# Altium footprint library Connectors.PcbLib: 73 footprints (part 4 of 5)
Each footprint in its own frame and in the unit in brackets; x right, y up, seen from the top. Pads: shape width x height; smd on the part's side, far side on the other; paste and mask are expansions set on the pad; w line width, h text height; cw(c..) or ccw(c..) is an arc to the next point about the centre after c.
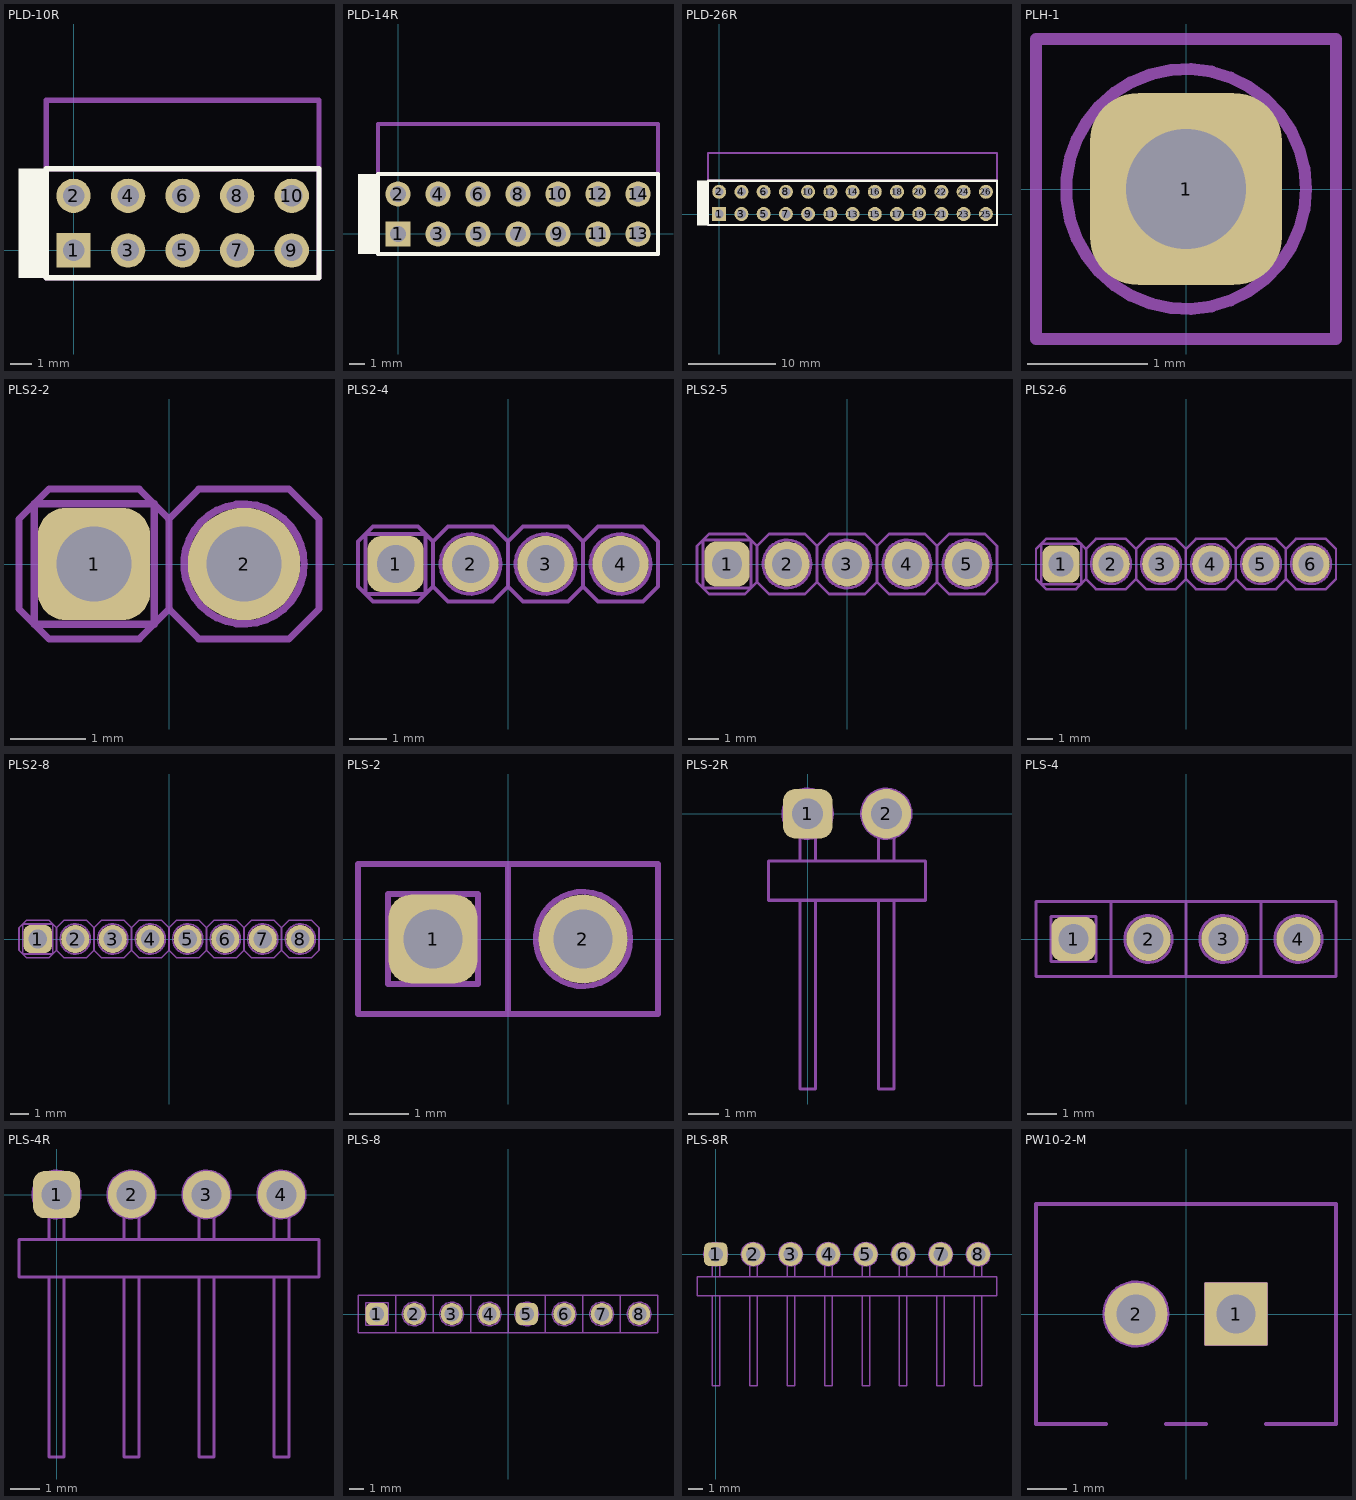
[diagram p3: the footprints below, top view; thin cyan lines are the x and y axes]

## PLD-10R [mm]
height 7
pads (10):
  rect 1.6x1.6 hole 1: 1(0,0)
  round 1.6 hole 1: 2(0,2.54) 3(2.54,0) 4(2.54,2.54) 5(5.08,0) 6(5.08,2.54) 7(7.62,0) 8(7.62,2.54) 9(10.16,0) 10(10.16,2.54)
Top Overlay:
  region: -1.27,3.81 -2.54,3.81 -2.54,-1.27 -1.27,-1.27
  lines w0.254: -1.27,-1.27 11.43,-1.27 11.43,3.81 -1.27,3.81 -1.27,-1.27
Mechanical 1:
  circle w0.254: c0,0 r0.635
  lines w0.254: -1.27,3.81 -1.27,-1.27 11.43,-1.27 11.43,3.81 ; -1.27,3.81 11.43,3.81 ; -1.27,3.81 -1.27,6.985 11.43,6.985 11.43,3.81
3D body: height 2.54, standoff 0, extent -1.27,-1.27 11.43,3.81
3D body: height 8.1, standoff 2.54, extent -1.27,-1.27 11.43,6.985

## PLD-14R [mm]
height 7
pads (14):
  rect 1.6x1.6 hole 1: 1(0,0)
  round 1.6 hole 1: 2(0,2.54) 3(2.54,0) 4(2.54,2.54) 5(5.08,0) 6(5.08,2.54) 7(7.62,0) 8(7.62,2.54) 9(10.16,0) 10(10.16,2.54) 11(12.7,0) 12(12.7,2.54) 13(15.24,0) 14(15.24,2.54)
Top Overlay:
  region: -1.27,3.81 -2.54,3.81 -2.54,-1.27 -1.27,-1.27
  lines w0.254: -1.27,-1.27 -1.27,3.81 16.51,3.81 16.51,-1.27 -1.27,-1.27
Mechanical 1:
  circle w0.254: c0,0 r0.635
  lines w0.254: 16.51,3.81 -1.27,3.81 ; -1.27,3.81 -1.27,6.985 16.51,6.985 16.51,-1.27 -1.27,-1.27 -1.27,3.81
3D body: height 8.1, standoff 2.54, extent -1.27,-1.27 16.51,6.985
3D body: height 2.54, standoff 0, extent -1.27,-1.27 16.51,3.81

## PLD-26R [mm]
height 7
pads (26):
  rect 1.6x1.6 hole 1: 1(0,0)
  round 1.6 hole 1: 2(0,2.54) 3(2.54,0) 4(2.54,2.54) 5(5.08,0) 6(5.08,2.54) 7(7.62,0) 8(7.62,2.54) 9(10.16,0) 10(10.16,2.54) 11(12.7,0) 12(12.7,2.54) 13(15.24,0) 14(15.24,2.54) 15(17.78,0) 16(17.78,2.54) 17(20.32,0) 18(20.32,2.54) 19(22.86,0) 20(22.86,2.54) 21(25.4,0) 22(25.4,2.54) 23(27.94,0) 24(27.94,2.54) 25(30.48,0) 26(30.48,2.54)
Top Overlay:
  region: -1.27,3.81 -2.54,3.81 -2.54,-1.27 -1.27,-1.27
  lines w0.254: -1.27,-1.27 31.75,-1.27 31.75,3.81 -1.27,3.81 -1.27,-1.27
Mechanical 1:
  circle w0.254: c0,0 r0.635
  lines w0.254: -1.27,3.81 31.75,3.81 ; -1.27,3.81 -1.27,-1.27 31.75,-1.27 31.75,3.81 ; -1.27,3.81 -1.27,6.985 31.75,6.985 31.75,3.81
3D body: height 2.54, standoff 0, extent -1.27,-1.27 31.75,3.81
3D body: height 8.1, standoff 2.54, extent -1.27,-1.27 31.75,6.985

## PLH-1 [mm]
pads (1):
  rrect50% 1.6x1.6 hole 1: 1(0,0)
Mechanical 1:
  lines w0.1: -1.25,-1.25 -1.25,1.25 1.25,1.25 1.25,-1.25 -1.25,-1.25
Mechanical 4:
  circle w0.1: c0,0 r1
Mechanical 13:
  text ".Designator" at -1.25,-2.25 h1
3D body: height 10.5, standoff 8, extent -1.25,-1.25 1.25,1.25
3D body: height 17, standoff -3, extent -0.5,-0.5 0.496,0.498
3D body: height 2.5, standoff 0, extent -1.25,-1.25 1.25,1.25

## PLS2-2 [mm]
pads (2):
  rrect50% 1.5x1.5 hole 1: 1(-1,0)
  round 1.5 hole 1: 2(1,0)
Mechanical 1:
  lines w0.1: 0,-0.6 0,0.6 ; 0,-0.6 0,-0.6 ; 0,-0.6 0.4,-1 1.6,-1 2,-0.6 2,0.6 1.6,1 0.4,1 0,0.6 ; 0,-0.6 -0.4,-1 -1.6,-1 -2,-0.6 -2,0.6 -1.6,1 -0.4,1 0,0.6 ; 0,0.6 0,0.6
Mechanical 4:
  circle w0.1: c1,0 r0.8
  lines w0.1: -1.8,-0.8 -0.2,-0.8 -0.2,0.8 -1.8,0.8 -1.8,-0.8
Mechanical 13:
  text ".Designator" at -2.286,-2.286 h1
3D body: height 1.5, standoff 0, extent 0,-1 2,1
3D body: height 1.5, standoff 0, extent -2,-1 0,1
3D body: height 5.5, standoff -2.5, extent 0.702,-0.299 1.3,0.299
3D body: height 5.5, standoff -2.5, extent -1.3,-0.299 -0.702,0.299

## PLS2-4 [mm]
pads (4):
  rrect50% 1.5x1.5 hole 1: 1(-3,0)
  round 1.5 hole 1: 2(-1,0) 3(1,0) 4(3,0)
Mechanical 1:
  lines w0.1: -2,-0.6 -2,0.6 ; -2,-0.6 -2,-0.6 ; -2,-0.6 -1.6,-1 -0.4,-1 0,-0.6 ; -2,-0.6 -2.4,-1 -3.6,-1 -4,-0.6 -4,0.6 -3.6,1 -2.4,1 -2,0.6 ; -2,0.6 -2,0.6 ; -2,0.6 -1.6,1 -0.4,1 0,0.6 ; 0,-0.6 0,-0.6 ; 0,-0.6 0.4,-1 1.6,-1 2,-0.6 ; 0,-0.6 0,0.6 ; 0,0.6 0.4,1 1.6,1 2,0.6 ; 0,0.6 0,0.6 ; 2,-0.6 2.4,-1 3.6,-1 4,-0.6 4,0.6 3.6,1 2.4,1 2,0.6 ; 2,-0.6 2,-0.6 ; 2,-0.6 2,0.6
Mechanical 4:
  circle w0.1: c-1,0 r0.8
  circle w0.1: c1,0 r0.8
  circle w0.1: c3,0 r0.8
  lines w0.1: -3.8,-0.8 -2.2,-0.8 -2.2,0.8 -3.8,0.8 -3.8,-0.8
Mechanical 13:
  text ".Designator" at -4.286,-2.286 h1
3D body: height 5.5, standoff -2.5, extent 2.702,-0.299 3.3,0.299
3D body: height 1.5, standoff 0, extent 2,-1 4,1
3D body: height 5.5, standoff -2.5, extent 0.702,-0.299 1.3,0.299
3D body: height 1.5, standoff 0, extent 0,-1 2,1
3D body: height 1.5, standoff 0, extent -2,-1 0,1
3D body: height 1.5, standoff 0, extent -4,-1 -2,1
3D body: height 5.5, standoff -2.5, extent -1.298,-0.299 -0.7,0.299
3D body: height 5.5, standoff -2.5, extent -3.3,-0.299 -2.702,0.299

## PLS2-5 [mm]
pads (5):
  rrect50% 1.5x1.5 hole 1: 1(-4,0)
  round 1.5 hole 1: 2(-2,0) 3(0,0) 4(2,0) 5(4,0)
Mechanical 1:
  lines w0.1: -3,-0.6 -3,0.6 ; -3,-0.6 -3,-0.6 ; -3,-0.6 -2.6,-1 -1.4,-1 -1,-0.6 ; -3,-0.6 -3.4,-1 -4.6,-1 -5,-0.6 -5,0.6 -4.6,1 -3.4,1 -3,0.6 ; -3,0.6 -3,0.6 ; -3,0.6 -2.6,1 -1.4,1 -1,0.6 ; -1,-0.6 -1,-0.6 ; -1,-0.6 -0.6,-1 0.6,-1 1,-0.6 ; -1,-0.6 -1,0.6 ; -1,0.6 -0.6,1 0.6,1 1,0.6 ; -1,0.6 -1,0.6 ; 1,-0.6 1.4,-1 2.6,-1 3,-0.6 ; 1,-0.6 1,-0.6 ; 1,-0.6 1,0.6 ; 1,0.6 1.4,1 2.6,1 3,0.6 ; 3,-0.6 3,0.6 ; 3,-0.6 3.4,-1 4.6,-1 5,-0.6 ; 3,-0.6 3,0.6 ; 3,0.6 3.4,1 4.6,1 5,0.6 ; 5,-0.6 5,-0.6 ; 5,-0.6 5,0.6 ; 5,0.6 5,0.6
Mechanical 4:
  circle w0.1: c-2,0 r0.8
  circle w0.1: c0,0 r0.8
  circle w0.1: c2,0 r0.8
  circle w0.1: c4,0 r0.8
  lines w0.1: -4.8,-0.8 -3.2,-0.8 -3.2,0.8 -4.8,0.8 -4.8,-0.8
Mechanical 13:
  text ".Designator" at -1.286,-2.286 h1
3D body: height 5.5, standoff -2.5, extent 1.702,-0.299 2.3,0.299
3D body: height 1.5, standoff 0, extent 1,-1 3,1
3D body: height 5.5, standoff -2.5, extent -0.298,-0.299 0.3,0.299
3D body: height 1.5, standoff 0, extent -1,-1 1,1
3D body: height 1.5, standoff 0, extent -3,-1 -1,1
3D body: height 1.5, standoff 0, extent -5,-1 -3,1
3D body: height 5.5, standoff -2.5, extent -2.298,-0.299 -1.7,0.299
3D body: height 5.5, standoff -2.5, extent -4.3,-0.299 -3.702,0.299
3D body: height 5.5, standoff -2.5, extent 3.7,-0.299 4.298,0.299
3D body: height 1.5, standoff 0, extent 3,-1 5,1

## PLS2-6 [mm]
pads (6):
  rrect50% 1.5x1.5 hole 1: 1(-5,0)
  round 1.5 hole 1: 2(-3,0) 3(-1,0) 4(1,0) 5(3,0) 6(5,0)
Mechanical 1:
  lines w0.1: -4,-0.6 -4.4,-1 -5.6,-1 -6,-0.6 -6,0.6 -5.6,1 -4.4,1 -4,0.6 ; -4,-0.6 -3.6,-1 -2.4,-1 -2,-0.6 ; -4,-0.6 -4,-0.6 ; -4,-0.6 -4,0.6 ; -4,0.6 -3.6,1 -2.4,1 -2,0.6 ; -4,0.6 -4,0.6 ; -2,-0.6 -2,0.6 ; -2,-0.6 -1.6,-1 -0.4,-1 0,-0.6 ; -2,-0.6 -2,-0.6 ; -2,0.6 -2,0.6 ; -2,0.6 -1.6,1 -0.4,1 0,0.6 ; 0,-0.6 0,0.6 ; 0,-0.6 0,-0.6 ; 0,-0.6 0.4,-1 1.6,-1 2,-0.6 ; 0,0.6 0.4,1 1.6,1 2,0.6 ; 2,-0.6 2,0.6 ; 2,-0.6 2.4,-1 3.6,-1 4,-0.6 ; 2,-0.6 2,0.6 ; 2,0.6 2.4,1 3.6,1 4,0.6 ; 4,-0.6 4,0.6 ; 4,-0.6 4,-0.6 ; 4,-0.6 4.4,-1 5.6,-1 6,-0.6 ; 4,0.6 4,0.6 ; 4,0.6 4.4,1 5.6,1 6,0.6 ; 6,-0.6 6,-0.6 ; 6,-0.6 6,0.6 ; 6,0.6 6,0.6
Mechanical 4:
  circle w0.1: c3,0 r0.8
  circle w0.1: c5,0 r0.8
  circle w0.1: c1,0 r0.8
  circle w0.1: c-1,0 r0.8
  circle w0.1: c-3,0 r0.8
  lines w0.1: -5.8,-0.8 -5.8,0.8 -4.2,0.8 -4.2,-0.8 -5.8,-0.8
Mechanical 13:
  text ".Designator" at -2.286,-2.286 h1
3D body: height 1.5, standoff 0, extent 4,-1 6,1
3D body: height 1.5, standoff 0, extent 2,-1 4,1
3D body: height 5.5, standoff -2.5, extent 4.702,-0.299 5.3,0.299
3D body: height 5.5, standoff -2.5, extent 2.7,-0.299 3.298,0.299
3D body: height 5.5, standoff -2.5, extent -5.3,-0.299 -4.702,0.299
3D body: height 5.5, standoff -2.5, extent -3.298,-0.299 -2.7,0.299
3D body: height 1.5, standoff 0, extent -6,-1 -4,1
3D body: height 1.5, standoff 0, extent -4,-1 -2,1
3D body: height 1.5, standoff 0, extent -2,-1 0,1
3D body: height 5.5, standoff -2.5, extent -1.298,-0.299 -0.7,0.299
3D body: height 1.5, standoff 0, extent 0,-1 2,1
3D body: height 5.5, standoff -2.5, extent 0.702,-0.299 1.3,0.299

## PLS2-8 [mm]
pads (8):
  rrect50% 1.5x1.5 hole 1: 1(-7,0)
  round 1.5 hole 1: 2(-5,0) 3(-3,0) 4(-1,0) 5(1,0) 6(3,0) 7(5,0) 8(7,0)
Mechanical 1:
  lines w0.1: -6,-0.6 -6.4,-1 -7.6,-1 -8,-0.6 -8,0.6 -7.6,1 -6.4,1 -6,0.6 ; -6,-0.6 -5.6,-1 -4.4,-1 -4,-0.6 ; -6,-0.6 -6,-0.6 ; -6,-0.6 -6,0.6 ; -6,0.6 -5.6,1 -4.4,1 -4,0.6 ; -6,0.6 -6,0.6 ; -4,-0.6 -4,0.6 ; -4,-0.6 -3.6,-1 -2.4,-1 -2,-0.6 ; -4,-0.6 -4,-0.6 ; -4,0.6 -4,0.6 ; -4,0.6 -3.6,1 -2.4,1 -2,0.6 ; -2,-0.6 -2,0.6 ; -2,-0.6 -2,-0.6 ; -2,-0.6 -1.6,-1 -0.4,-1 0,-0.6 ; -2,0.6 -1.6,1 -0.4,1 0,0.6 ; 0,-0.6 0,0.6 ; 0,-0.6 0.4,-1 1.6,-1 2,-0.6 ; 0,-0.6 0,0.6 ; 0,0.6 0.4,1 1.6,1 2,0.6 ; 2,-0.6 2,0.6 ; 2,-0.6 2,-0.6 ; 2,-0.6 2.4,-1 3.6,-1 4,-0.6 ; 2,0.6 2,0.6 ; 2,0.6 2.4,1 3.6,1 4,0.6 ; 4,-0.6 4,-0.6 ; 4,-0.6 4.4,-1 5.6,-1 6,-0.6 ; 4,-0.6 4,0.6 ; 4,0.6 4.4,1 5.6,1 6,0.6 ; 4,0.6 4,0.6 ; 6,-0.6 6.4,-1 7.6,-1 8,-0.6 8,0.6 7.6,1 6.4,1 6,0.6 ; 6,-0.6 6,-0.6 ; 6,-0.6 6,0.6
Mechanical 4:
  circle w0.1: c1,0 r0.8
  circle w0.1: c3,0 r0.8
  circle w0.1: c5,0 r0.8
  circle w0.1: c7,0 r0.8
  circle w0.1: c-1,0 r0.8
  circle w0.1: c-3,0 r0.8
  circle w0.1: c-5,0 r0.8
  lines w0.1: -7.8,-0.8 -7.8,0.8 -6.2,0.8 -6.2,-0.8 -7.8,-0.8
Mechanical 13:
  text ".Designator" at -4.286,-2.286 h1
3D body: height 5.5, standoff -2.5, extent 6.702,-0.299 7.3,0.299
3D body: height 1.5, standoff 0, extent 6,-1 8,1
3D body: height 5.5, standoff -2.5, extent 4.702,-0.299 5.3,0.299
3D body: height 1.5, standoff 0, extent 4,-1 6,1
3D body: height 1.5, standoff 0, extent 2,-1 4,1
3D body: height 1.5, standoff 0, extent 0,-1 2,1
3D body: height 5.5, standoff -2.5, extent 2.702,-0.299 3.3,0.299
3D body: height 5.5, standoff -2.5, extent 0.7,-0.299 1.298,0.299
3D body: height 5.5, standoff -2.5, extent -7.3,-0.299 -6.702,0.299
3D body: height 5.5, standoff -2.5, extent -5.298,-0.299 -4.7,0.299
3D body: height 1.5, standoff 0, extent -8,-1 -6,1
3D body: height 1.5, standoff 0, extent -6,-1 -4,1
3D body: height 1.5, standoff 0, extent -4,-1 -2,1
3D body: height 5.5, standoff -2.5, extent -3.298,-0.299 -2.7,0.299
3D body: height 1.5, standoff 0, extent -2,-1 0,1
3D body: height 5.5, standoff -2.5, extent -1.298,-0.299 -0.7,0.299

## PLS-2 [mm]
pads (2):
  rrect50% 1.5x1.5 hole 1: 1(-1.27,0)
  round 1.5 hole 1: 2(1.27,0)
Mechanical 1:
  lines w0.1: 0,-1.27 0,1.27 ; -2.54,-1.27 -2.54,1.27 2.54,1.27 2.54,-1.27 -2.54,-1.27
Mechanical 4:
  circle w0.1: c1.27,0 r0.8
  lines w0.1: -2.032,-0.762 -2.032,0.762 -0.508,0.762 -0.508,-0.762 -2.032,-0.762
Mechanical 13:
  text ".Designator" at -2.286,-2.286 h1
3D body: height 8.5, standoff -3, extent 1.016,-0.254 1.614,0.345
3D body: height 8.5, standoff -3, extent -1.524,-0.254 -0.926,0.345
3D body: height 2.5, standoff 0, extent -2.54,-1.27 2.54,1.27

## PLS-2R [mm]
pads (2):
  rrect50% 1.6x1.6 hole 1: 1(0,0)
  round 1.6 hole 1: 2(2.54,0)
Mechanical 1:
  lines w0.1: -0.254,-2.794 -0.254,-8.89 0.254,-8.89 0.254,-2.794 ; -0.254,-1.524 -0.254,0.254 0.254,0.254 0.254,-1.524 ; 2.286,-2.794 2.286,-8.89 2.794,-8.89 2.794,-2.794 ; 2.286,-1.524 2.286,0.254 2.794,0.254 2.794,-1.524 ; -1.27,-2.794 -1.27,-1.524 3.81,-1.524 3.81,-2.794 -1.27,-2.794
Mechanical 4:
  circle w0.1: c0,0 r0.8
  circle w0.1: c2.54,0 r0.8
3D body: height 1.6, standoff -3.2, extent 2.24,-0.3 2.84,0.3
3D body: height 1.6, standoff 1, extent 2.24,-9 2.84,-0.3
3D body: height 1.6, standoff 1, extent -0.3,-9 0.3,-0.3
3D body: height 1.6, standoff -3.2, extent -0.3,-0.3 0.3,0.3
3D body: height 2.54, standoff 0, extent -1.27,-2.77 3.81,-1.5

## PLS-4 [mm]
pads (4):
  rrect50% 1.5x1.5 hole 1: 1(-3.81,0)
  round 1.5 hole 1: 2(-1.27,0) 3(1.27,0) 4(3.81,0)
Mechanical 1:
  lines w0.1: -2.54,-1.27 -2.54,1.27 ; 0,-1.27 0,1.27 ; 2.54,-1.27 2.54,1.27 ; -5.08,-1.27 5.08,-1.27 5.08,1.27 -5.08,1.27 -5.08,-1.27
Mechanical 4:
  circle w0.1: c3.81,0 r0.8
  circle w0.1: c1.27,0 r0.8
  circle w0.1: c-1.27,0 r0.8
  lines w0.1: -4.572,-0.762 -3.048,-0.762 -3.048,0.762 -4.572,0.762 -4.572,-0.762
Mechanical 13:
  text ".Designator" at -2.286,-2.286 h1
3D body: height 2.5, standoff 0, extent -5.08,-1.27 5.08,1.27
3D body: height 8.5, standoff -3, extent -4.064,-0.254 -3.466,0.345
3D body: height 8.5, standoff -3, extent -1.524,-0.254 -0.926,0.345
3D body: height 8.5, standoff -3, extent 1.016,-0.254 1.614,0.345
3D body: height 8.5, standoff -3, extent 3.556,-0.254 4.154,0.345

## PLS-4R [mm]
pads (4):
  rrect50% 1.6x1.6 hole 1: 1(0,0)
  round 1.6 hole 1: 2(2.54,0) 3(5.08,0) 4(7.62,0)
Mechanical 1:
  lines w0.1: -0.254,-2.794 -0.254,-8.89 0.254,-8.89 0.254,-2.794 ; -0.254,-1.524 -0.254,0.254 0.254,0.254 0.254,-1.524 ; 2.286,-2.794 2.286,-8.89 2.794,-8.89 2.794,-2.794 ; 2.286,-1.524 2.286,0.254 2.794,0.254 2.794,-1.524 ; 4.826,-2.794 4.826,-8.89 5.334,-8.89 5.334,-2.794 ; 4.826,-1.524 4.826,0.254 5.334,0.254 5.334,-1.524 ; 7.366,-2.794 7.366,-8.89 7.874,-8.89 7.874,-2.794 ; 7.366,-1.524 7.366,0.254 7.874,0.254 7.874,-1.524 ; -1.27,-2.794 8.89,-2.794 8.89,-1.524 -1.27,-1.524 -1.27,-2.794
Mechanical 4:
  circle w0.1: c7.62,0 r0.8
  circle w0.1: c5.08,0 r0.8
  circle w0.1: c2.54,0 r0.8
  circle w0.1: c0,0 r0.8
3D body: height 1.6, standoff -3.2, extent 2.24,-0.3 2.84,0.3
3D body: height 1.6, standoff 1, extent 2.24,-9 2.84,-0.3
3D body: height 1.6, standoff 1, extent -0.3,-9 0.3,-0.3
3D body: height 1.6, standoff -3.2, extent -0.3,-0.3 0.3,0.3
3D body: height 2.54, standoff 0, extent -1.27,-2.77 3.81,-1.5
3D body: height 1.6, standoff 1, extent 4.78,-9 5.38,-0.3
3D body: height 1.6, standoff -3.2, extent 4.78,-0.3 5.38,0.3
3D body: height 1.6, standoff 1, extent 7.32,-9 7.92,-0.3
3D body: height 1.6, standoff -3.2, extent 7.32,-0.3 7.92,0.3
3D body: height 2.54, standoff 0, extent 3.81,-2.77 8.89,-1.5

## PLS-8 [mm]
pads (8):
  rrect50% 1.5x1.5 hole 1: 1(-8.89,0) 5(1.27,0)
  round 1.5 hole 1: 2(-6.35,0) 3(-3.81,0) 4(-1.27,0) 6(3.81,0) 7(6.35,0) 8(8.89,0)
Mechanical 1:
  lines w0.1: -7.62,-1.27 -7.62,1.27 ; -5.08,-1.27 -5.08,1.27 ; -2.54,-1.27 -2.54,1.27 ; 0,-1.27 0,1.27 ; 2.54,-1.27 2.54,1.27 ; 5.08,-1.27 5.08,1.27 ; 7.62,-1.27 7.62,1.27 ; -10.16,-1.27 10.16,-1.27 10.16,1.27 -10.16,1.27 -10.16,-1.27
Mechanical 4:
  circle w0.1: c8.89,0 r0.8
  circle w0.1: c6.35,0 r0.8
  circle w0.1: c3.81,0 r0.8
  circle w0.1: c1.27,0 r0.8
  circle w0.1: c-1.27,0 r0.8
  circle w0.1: c-3.81,0 r0.8
  circle w0.1: c-6.35,0 r0.8
  lines w0.1: -9.652,-0.762 -8.128,-0.762 -8.128,0.762 -9.652,0.762 -9.652,-0.762
Mechanical 13:
  text ".Designator" at -7.366,-2.286 h1
3D body: height 8.5, standoff -3, extent 8.636,-0.254 9.234,0.345
3D body: height 8.5, standoff -3, extent 6.096,-0.254 6.694,0.345
3D body: height 8.5, standoff -3, extent 3.556,-0.254 4.154,0.345
3D body: height 8.5, standoff -3, extent 1.016,-0.254 1.614,0.345
3D body: height 2.5, standoff 0, extent -10.16,-1.27 10.16,1.27
3D body: height 8.5, standoff -3, extent -9.144,-0.254 -8.546,0.345
3D body: height 8.5, standoff -3, extent -6.604,-0.254 -6.006,0.345
3D body: height 8.5, standoff -3, extent -4.064,-0.254 -3.466,0.345
3D body: height 8.5, standoff -3, extent -1.524,-0.254 -0.926,0.345

## PLS-8R [mm]
pads (8):
  rrect50% 1.6x1.6 hole 1: 1(0,0)
  round 1.6 hole 1: 2(2.54,0) 3(5.08,0) 4(7.62,0) 5(10.16,0) 6(12.7,0) 7(15.24,0) 8(17.78,0)
Mechanical 1:
  lines w0.1: -0.254,-2.794 -0.254,-8.89 0.254,-8.89 0.254,-2.794 ; -0.254,-1.524 -0.254,0.254 0.254,0.254 0.254,-1.524 ; 2.286,-2.794 2.286,-8.89 2.794,-8.89 2.794,-2.794 ; 2.286,-1.524 2.286,0.254 2.794,0.254 2.794,-1.524 ; 4.826,-2.794 4.826,-8.89 5.334,-8.89 5.334,-2.794 ; 4.826,-1.524 4.826,0.254 5.334,0.254 5.334,-1.524 ; 7.366,-2.794 7.366,-8.89 7.874,-8.89 7.874,-2.794 ; 7.366,-1.524 7.366,0.254 7.874,0.254 7.874,-1.524 ; 9.906,-2.794 9.906,-8.89 10.414,-8.89 10.414,-2.794 ; 9.906,-1.524 9.906,0.254 10.414,0.254 10.414,-1.524 ; 12.446,-2.794 12.446,-8.89 12.954,-8.89 12.954,-2.794 ; 12.446,-1.524 12.446,0.254 12.954,0.254 12.954,-1.524 ; 14.986,-2.794 14.986,-8.89 15.494,-8.89 15.494,-2.794 ; 14.986,-1.524 14.986,0.254 15.494,0.254 15.494,-1.524 ; 17.526,-2.794 17.526,-8.89 18.034,-8.89 18.034,-2.794 ; 17.526,-1.524 17.526,0.254 18.034,0.254 18.034,-1.524 ; -1.27,-2.794 -1.27,-1.524 19.05,-1.524 19.05,-2.794 -1.27,-2.794
Mechanical 4:
  circle w0.1: c0,0 r0.8
  circle w0.1: c2.54,0 r0.8
  circle w0.1: c5.08,0 r0.8
  circle w0.1: c7.62,0 r0.8
  circle w0.1: c10.16,0 r0.8
  circle w0.1: c12.7,0 r0.8
  circle w0.1: c15.24,0 r0.8
  circle w0.1: c17.78,0 r0.8
3D body: height 2.54, standoff 0, extent 3.81,-2.77 8.89,-1.5
3D body: height 1.6, standoff -3.2, extent 7.32,-0.3 7.92,0.3
3D body: height 1.6, standoff 1, extent 7.32,-9 7.92,-0.3
3D body: height 1.6, standoff -3.2, extent 4.78,-0.3 5.38,0.3
3D body: height 1.6, standoff 1, extent 4.78,-9 5.38,-0.3
3D body: height 2.54, standoff 0, extent -1.27,-2.77 3.81,-1.5
3D body: height 1.6, standoff -3.2, extent -0.3,-0.3 0.3,0.3
3D body: height 1.6, standoff 1, extent -0.3,-9 0.3,-0.3
3D body: height 1.6, standoff 1, extent 2.24,-9 2.84,-0.3
3D body: height 1.6, standoff -3.2, extent 2.24,-0.3 2.84,0.3
3D body: height 1.6, standoff 1, extent 9.86,-9 10.46,-0.3
3D body: height 1.6, standoff -3.2, extent 9.86,-0.3 10.46,0.3
3D body: height 1.6, standoff 1, extent 12.4,-9 13,-0.3
3D body: height 1.6, standoff -3.2, extent 12.4,-0.3 13,0.3
3D body: height 2.54, standoff 0, extent 8.89,-2.77 13.97,-1.5
3D body: height 1.6, standoff 1, extent 14.94,-9 15.54,-0.3
3D body: height 1.6, standoff -3.2, extent 14.94,-0.3 15.54,0.3
3D body: height 1.6, standoff 1, extent 17.48,-9 18.08,-0.3
3D body: height 1.6, standoff -3.2, extent 17.48,-0.3 18.08,0.3
3D body: height 2.54, standoff 0, extent 13.97,-2.77 19.05,-1.5

## PW10-2-M [mm]
pads (2):
  rect 1.6x1.6 hole 1: 1(1.27,0)
  round 1.6 hole 1: 2(-1.27,0)
Mechanical 1:
  lines w0.1: -2.032,-2.794 -3.81,-2.794 -3.81,2.794 3.81,2.794 3.81,-2.794 2.032,-2.794 ; -0.508,-2.794 0.508,-2.794
Mechanical 4:
  circle w0.1: c-1.27,0 r0.803
  lines w0.1: 0.508,-0.762 0.508,0.762 2.032,0.762 2.032,-0.762 0.508,-0.762
Mechanical 13:
  text ".Designator" at -2.032,-0.254 h1
3D body: height 6, standoff 0, extent -0.508,-2.794 0.508,-2.286
3D body: height 6, standoff 0, extent -3.81,-2.794 3.81,2.794